# EAGLE library part FPGA (library ESKD)
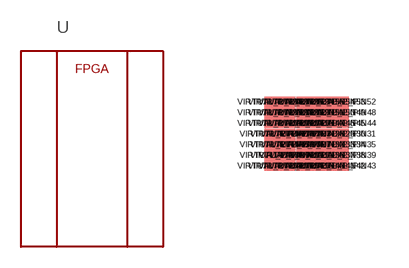
[diagram p3: symbol with the pads of UNIVERSAL_PACKAGE; footprint UNIVERSAL_PACKAGE]

Designator prefix U

## FPGA  [UNIVERSAL_PACKAGE]
VIRTUAL_PIN0  P$1
VIRTUAL_PIN1  P$2
VIRTUAL_PIN2  P$3
VIRTUAL_PIN3  P$4
VIRTUAL_PIN4  P$5
VIRTUAL_PIN5  P$6
VIRTUAL_PIN6  P$7
VIRTUAL_PIN7  P$8
VIRTUAL_PIN8  P$9
VIRTUAL_PIN9  P$10
VIRTUAL_PIN10  P$11
VIRTUAL_PIN11  P$12
VIRTUAL_PIN12  P$13
VIRTUAL_PIN13  P$14
VIRTUAL_PIN14  P$15
VIRTUAL_PIN15  P$16
VIRTUAL_PIN16  P$17
VIRTUAL_PIN17  P$18
VIRTUAL_PIN18  P$19
VIRTUAL_PIN19  P$20

## Footprint UNIVERSAL_PACKAGE (pad centres in mm)
smd 0.254 x 0.254: VIRTUAL_PIN0 0.127,-0.127; VIRTUAL_PIN1 0.394,-0.127; VIRTUAL_PIN2 0.66,-0.127; VIRTUAL_PIN3 0.927,-0.127; VIRTUAL_PIN4 0.127,-0.394; VIRTUAL_PIN5 0.394,-0.394; VIRTUAL_PIN6 0.66,-0.394; VIRTUAL_PIN7 0.927,-0.394; VIRTUAL_PIN8 0.127,-0.66; VIRTUAL_PIN9 0.394,-0.66; VIRTUAL_PIN10 0.66,-0.66; VIRTUAL_PIN11 0.927,-0.66; VIRTUAL_PIN12 0.127,-0.927; VIRTUAL_PIN13 0.394,-0.927; VIRTUAL_PIN14 0.66,-0.927; VIRTUAL_PIN15 0.927,-0.927; VIRTUAL_PIN16 0.927,0.14; VIRTUAL_PIN17 0.66,0.14; VIRTUAL_PIN18 0.394,0.14; VIRTUAL_PIN19 0.127,0.14; VIRTUAL_PIN20 0.927,0.406; VIRTUAL_PIN21 0.66,0.406; VIRTUAL_PIN22 0.394,0.406; VIRTUAL_PIN23 0.127,0.406; VIRTUAL_PIN24 0.927,0.673; VIRTUAL_PIN25 0.66,0.673; VIRTUAL_PIN26 0.394,0.673; VIRTUAL_PIN27 0.127,0.673; VIRTUAL_PIN28 1.194,-0.127; VIRTUAL_PIN29 1.46,-0.127; VIRTUAL_PIN30 1.727,-0.127; VIRTUAL_PIN31 1.994,-0.127; VIRTUAL_PIN32 1.194,-0.394; VIRTUAL_PIN33 1.46,-0.394; VIRTUAL_PIN34 1.727,-0.394; VIRTUAL_PIN35 1.994,-0.394; VIRTUAL_PIN36 1.194,-0.66; VIRTUAL_PIN37 1.46,-0.66; VIRTUAL_PIN38 1.727,-0.66; VIRTUAL_PIN39 1.994,-0.66; VIRTUAL_PIN40 1.194,-0.927; VIRTUAL_PIN41 1.46,-0.927; VIRTUAL_PIN42 1.727,-0.927; VIRTUAL_PIN43 1.994,-0.927; VIRTUAL_PIN44 1.994,0.14; VIRTUAL_PIN45 1.727,0.14; VIRTUAL_PIN46 1.46,0.14; VIRTUAL_PIN47 1.194,0.14; VIRTUAL_PIN48 1.994,0.406; VIRTUAL_PIN49 1.727,0.406; VIRTUAL_PIN50 1.46,0.406; VIRTUAL_PIN51 1.194,0.406; VIRTUAL_PIN52 1.994,0.673; VIRTUAL_PIN53 1.727,0.673; VIRTUAL_PIN54 1.46,0.673; VIRTUAL_PIN55 1.194,0.673